# Altium schematic symbol library HDMI.SchLib: 1 symbol
Pins are listed as number, name and electrical type; pins without a type are passive.

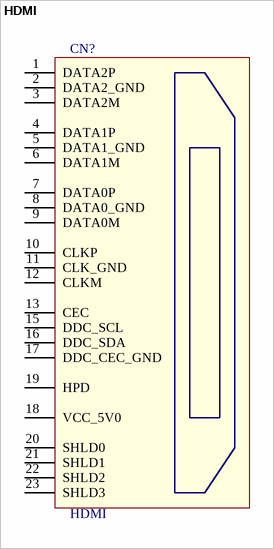
[diagram p0: symbol HDMI]

## HDMI
designator CN?
value: KLS1-285-19-22-N1B
pins: 1 DATA2P, 2 DATA2_GND, 3 DATA2M, 4 DATA1P, 5 DATA1_GND, 6 DATA1M, 7 DATA0P, 8 DATA0_GND, 9 DATA0M, 10 CLKP, 11 CLK_GND, 12 CLKM, 13 CEC, 15 DDC_SCL, 16 DDC_SDA, 17 DDC_CEC_GND, 18 VCC_5V0, 19 HPD, 20 SHLD0, 21 SHLD1, 22 SHLD2, 23 SHLD3